# EAGLE library part DPS310XTSA1 (library ICs)
Pressure Sensor 4.35PSI ~ 17.4PSI (30kPa ~ 120kPa) Vented Gauge 24 b 8-VFLGA
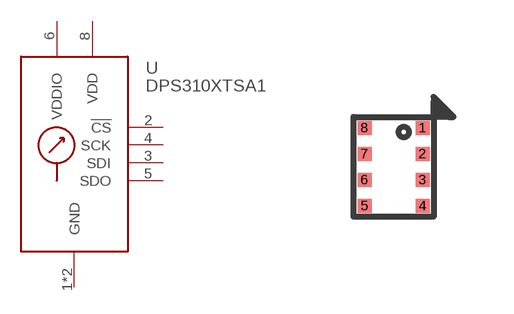
[diagram p273: symbol with the pads of PG-VLGA-8-1; footprint PG-VLGA-8-1]

Designator prefix U

## DPS310XTSA1 (DIGIKEY: DPS310XTSA1CT-ND; HEIGHT: 1; PRICE_PER: 2.2; VALUE: DPS310XTSA1)  [PG-VLGA-8-1]
1  GND
2  !CS
3  SDI
4  SCK
5  SDO
6  VDDIO
7  GND
8  VDD

## Footprint PG-VLGA-8-1 (pad centres in mm)
smd 0.35 x 0.35: 1 0.725,0.975; 2 0.725,0.325; 3 0.725,-0.325; 4 0.725,-0.975; 5 -0.725,-0.975; 6 -0.725,-0.325; 7 -0.725,0.325; 8 -0.725,0.975